# Altium schematic symbol library SCPHS-13.6+.SchLib: 1 symbol
Pins are listed as number, name and electrical type; pins without a type are passive.

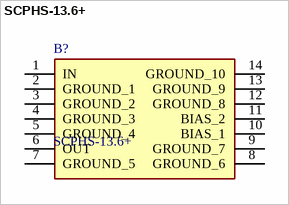
[diagram p0: symbol SCPHS-13.6+]

## SCPHS-13.6+
designator B?
RF IC Phase Shifter Cellular, DCS, PCS 10MHz ~ 16MHz 360 Phase Shift; Manufacturer_Name: Mini-Circuits; Geometry.Height: 6.35mm; Mouser Part Number: *; Mouser Price/Stock: *; Manufacturer_Part_Number: SCPHS-13.6+; Datasheet Link: https://www.minicircuits.com/pdfs/SCPHS-13.6+.pdf?srsltid=AfmBOood8OJ5uavXDNUtbAfkLWqTrYLA4ByT_aWsjahEDcoRM0afmWrr
footprint SCPHS136
pins: 1 IN, 2 GROUND_1, 3 GROUND_2, 4 GROUND_3, 5 GROUND_4, 6 OUT, 7 GROUND_5, 8 GROUND_6, 9 GROUND_7, 10 BIAS_1, 11 BIAS_2, 12 GROUND_8, 13 GROUND_9, 14 GROUND_10